# EAGLE library part ATF1502 (library atmel-cpld)
ATF150x in 44 pin package.
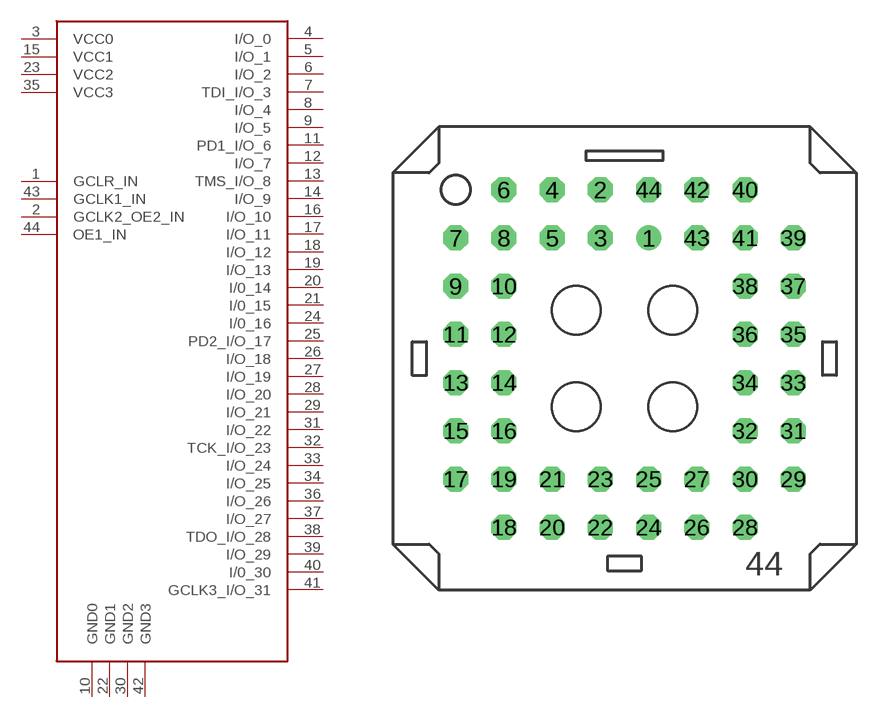
[diagram p0: symbol with the pads of 3M44; footprint 3M44]

Designator prefix -

## ATF1502PLCC44  [3M44]
1  GCLR_IN
2  GCLK2_OE2_IN
3  VCC0
4  I/O_0
5  I/O_1
6  I/O_2
7  TDI_I/O_3
8  I/O_4
9  I/O_5
10  GND0
11  PD1_I/O_6
12  I/O_7
13  TMS_I/O_8
14  I/O_9
15  VCC1
16  I/O_10
17  I/O_11
18  I/O_12
19  I/O_13
20  I/0_14
21  I/0_15
22  GND1
23  VCC2
24  I/0_16
25  PD2_I/O_17
26  I/O_18
27  I/O_19
28  I/O_20
29  I/O_21
30  GND2
31  I/O_22
32  TCK_I/O_23
33  I/O_24
34  I/O_25
35  VCC3
36  I/O_26
37  I/O_27
38  TDO_I/O_28
39  I/O_29
40  I/0_30
41  GCLK3_I/O_31
42  GND3
43  GCLK1_IN
44  OE1_IN

## Footprint 3M44 (pad centres in mm)
PLCC SOCKET
drill 0.813: 1 1.27,6.35
drill 0.813 octagon: 2 -1.27,8.89; 3 -1.27,6.35; 4 -3.81,8.89; 5 -3.81,6.35; 6 -6.35,8.89; 7 -8.89,6.35; 8 -6.35,6.35; 9 -8.89,3.81; 10 -6.35,3.81; 11 -8.89,1.27; 12 -6.35,1.27; 13 -8.89,-1.27; 14 -6.35,-1.27; 15 -8.89,-3.81; 16 -6.35,-3.81; 17 -8.89,-6.35; 18 -6.35,-8.89; 19 -6.35,-6.35; 20 -3.81,-8.89; 21 -3.81,-6.35; 22 -1.27,-8.89; 23 -1.27,-6.35; 24 1.27,-8.89; 25 1.27,-6.35; 26 3.81,-8.89; 27 3.81,-6.35; 28 6.35,-8.89; 29 8.89,-6.35; 30 6.35,-6.35; 31 8.89,-3.81; 32 6.35,-3.81; 33 8.89,-1.27; 34 6.35,-1.27; 35 8.89,1.27; 36 6.35,1.27; 37 8.89,3.81; 38 6.35,3.81; 39 8.89,6.35; 40 6.35,8.89; 41 6.35,6.35; 42 3.81,8.89; 43 3.81,6.35; 44 1.27,8.89